# Altium footprint library TE_6-534998-3.PcbLib: 1 footprints
Each footprint in its own frame and in the unit in brackets; x right, y up, seen from the top. Pads: shape width x height; smd on the part's side, far side on the other; paste and mask are expansions set on the pad; w line width, h text height; cw(c..) or ccw(c..) is an arc to the next point about the centre after c.
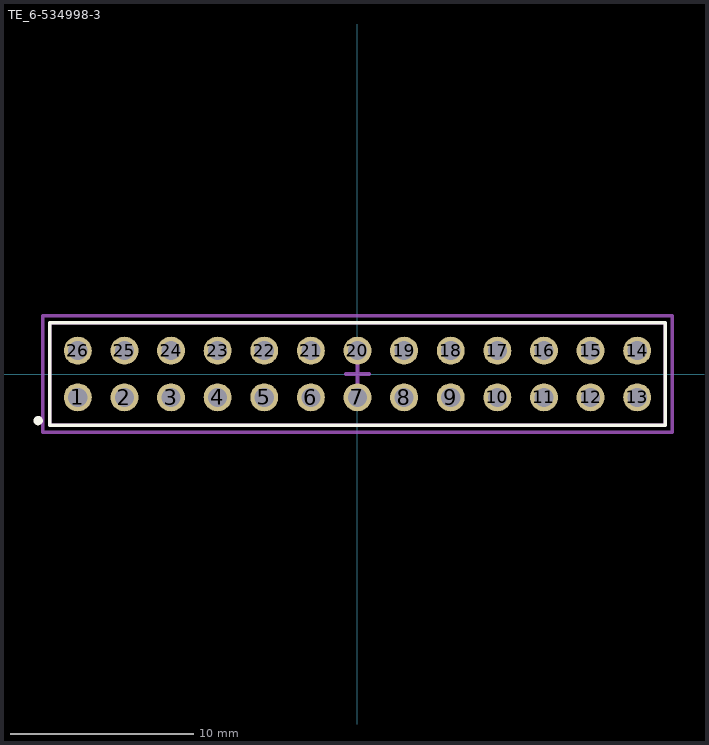
[diagram p0: the footprint, top view; thin cyan lines are the x and y axes]

## TE_6-534998-3 [mil]
pads (26):
  round 60 hole 41: 1(-600,-50) 2(-500,-50) 3(-400,-50) 4(-300,-50) 5(-200,-50) 6(-100,-50) 7(0,-50) 8(100,-50) 9(200,-50) 10(300,-50) 11(400,-50) 12(500,-50) 13(600,-50) 14(600,50) 15(500,50) 16(400,50) 17(300,50) 18(200,50) 19(100,50) 20(0,50) 21(-100,50) 22(-200,50) 23(-300,50) 24(-400,50) 25(-500,50) 26(-600,50)
Top Overlay:
  circle w10: c-685,-100 r5
  lines w7.87: -660,-110 -660,110 660,110 660,-110 -660,-110
Mechanical 15:
  lines w7.87: -25,0 25,0 ; 0,-25 0,25 ; -675,-125 675,-125 675,125 -675,125 -675,-125
Mechanical 17:
  lines w7.87: -660,-110 660,-110 660,110 -660,110 -660,-110
  text ".Designator" at -615,-75 h60
Mechanical 19:
  lines w7.87: -660,-110 660,-110 660,110 -660,110 -660,-110
  text ".Comment" at -625,-80 h60
3D body: height 265, standoff -125, extent -649.99,-98.99 650.01,99